# Altium integrated library Components - 28.09.25 - 14.59.IntLib: 1 symbol
Pins are listed as number, name and electrical type; pins without a type are passive.

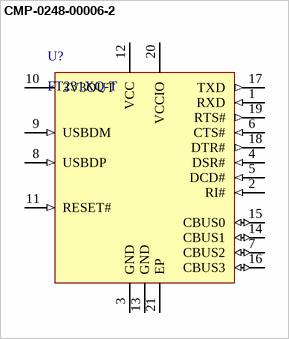
[diagram p0: symbol CMP-0248-00006-2]

## CMP-0248-00006-2
designator U?, comment FT231XQ-T
USB to Full-Handshake UART Interface Chip, UHCI/OHCI/EHCI Compatible, USB 2.0 Compatible, -40 to +85 degC, 20-Pin QFN, Pb-Free, Tray; Manufacturer: FTDI; PartNumber: FT231XQ-T; PackageVersion: Feb-13; ComponentLink1URL: http://www.ftdichip.com/; ComponentLink2Description: Datasheet; RevisionNote: DatasheetVersion updated to 1.2 Feb-2013; Code_JEDEC: MO-220WGGD-1; ComponentLink2URL: http://www.ftdichip.com/Support/Documents/DataSheets/ICs/DS_FT231X.pdf; DatasheetVersion: ver 1.2, Feb-2013; ComponentLink3URL: www.ftdichip.com/Products/ICs/FT231X.html; PackageDescription: 20-Pin Quad Flat No-Lead, 4 x 4 mm Body, 0.5 mm Pitch; ComponentLink1Description: Manufacturer URL; ComponentLink3Description: FT231X Product Page; PackageReference: QFN-20
footprint QFN-20_N (QFN, 20-Leads, Body 4x4mm, Pitch 0.5mm, Thermal Pad 2x2mm, IPC Medium Density)
footprint QFN-20_L (QFN, 20-Leads, Body 4x4mm, Pitch 0.5mm, Thermal Pad 2x2mm, IPC High Density)
footprint QFN-20_M (QFN, 20-Leads, Body 4x4mm, Pitch 0.5mm, Thermal Pad 2x2mm, IPC Low Density)
pins: 1 RXD (in) "Receiving Asynchronous Data Input.", 2 RI# (in) "Ring Indicator input for remote wake up.", 3 GND (power) "0V Ground input.", 4 DSR# (in) "Data Set Ready Control Input / Handshake Signal.", 5 DCD# (in) "Data Carrier Detect Control Input.", 6 CTS# (in) "Clear To Send Control Input / Handshake Signal.", 7 CBUS2 (io) "Configurable CBUS I/O Pin. Function of this pin is configured in the device MTP memory. The default configuration is TXLED#.", 8 USBDP (in) "USB Data Signal Plus.", 9 USBDM (in) "USB Data Signal Minus.", 10 3V3OUT (power) "3V3 output at 50mA. May be used to power VCCIO. When VCC is 3V3; pin 10 is an input pin and should be connected to pin 12.", 11 RESET# (in) "Reset input (active low).", 12 VCC (power) "5 V (or 3V3) supply to IC.", 13 GND (power) "0V Ground input.", 14 CBUS1 (io) "Configurable CBUS I/O Pin. Function of this pin is configured in the device MTP memory. The default configuration is RXLED#.", 15 CBUS0 (io) "Configurable CBUS I/O Pin. Function of this pin is configured in the device MTP memory. The default configuration is TXDEN.", 16 CBUS3 (io) "Configurable CBUS I/O Pin. Function of this pin is configured in the device MTP memory. The default configuration is SLEEP#.", 17 TXD (out) "Transmit Asynchronous Data Output.", 18 DTR# (out) "Data Terminal Ready Control Output / Handshake Signal.", 19 RTS# (out) "Request to Send Control Output / Handshake Signal.", 20 VCCIO (power) "1V8 -3V3 supply for the IO cells.", 21 EP (power) "Exposed Pad. Connect to GND."